# EAGLE library part PINHD-1X15 (library 01PINHEAD1)
PIN HEADER
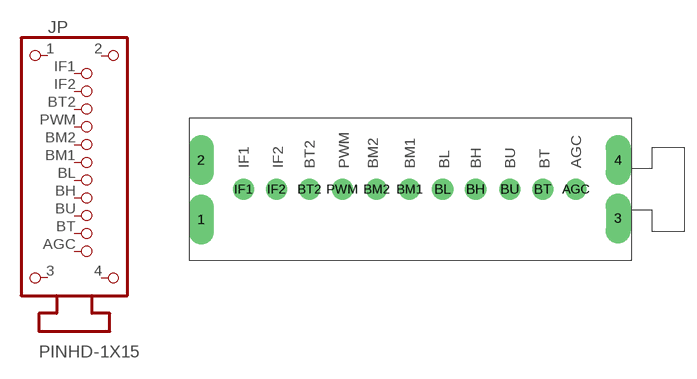
[diagram p10: symbol with the pads of 1X15; footprint 1X15]

Designator prefix JP

## PINHD-1X15  [1X15]
1  1  pas
2  2  pas
3  3  pas
4  4  pas
AGC  AGC  pas
BH  BH  pas
BL  BL  pas
BM1  BM1  pas
BM2  BM2  pas
BT  BT  pas
BT2  BT2  pas
BU  BU  pas
IF1  IF1  pas
IF2  IF2  pas
PWM  PWM  pas

## Footprint 1X15 (pad centres in mm)
PIN HEADER
drill 1 pad 3 long: 1 -25.082,-3.651; 2 -25.082,3.493; 3 25.082,-3.492; 4 25.082,3.493
drill 1.2 pad 2.54 round: AGC 20.003,0; BH 7.938,0; BL 3.969,0; BM1 0,0; BM2 -3.969,0; BT 16.034,0; BT2 -12.065,0; BU 12.065,0; IF1 -20.003,0; IF2 -16.034,0; PWM -8.096,0